# EAGLE library part IC_BUFF_74LVC244A (library dp_devices)
Octal buffer/line driver SN74LVC244A <http://www.ti.com/lit/ds/scas414x/scas414x.pdf>
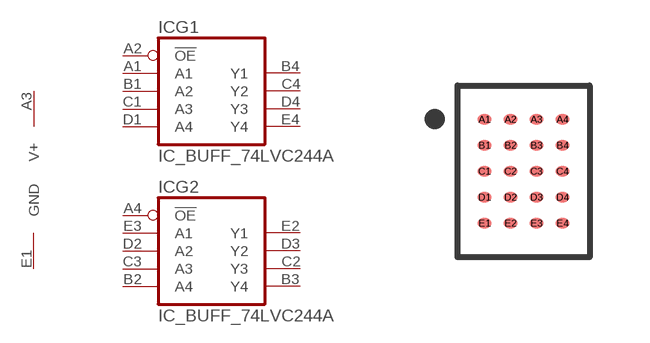
[diagram p143: symbol with the pads of BGA-20; footprint BGA-20]

Designator prefix IC; gates G1=74244 G2=74244 S1=SUPPLY

## IC_BUFF_74LVC244A  [BGA-20]
A1  G1:A1  in
A2  G1:!OE  in
A3  S1:V+  sup
A4  G2:!OE  in
B1  G1:A2  in
B2  G2:A4  in
B3  G2:Y4  out
B4  G1:Y1  out
C1  G1:A3  in
C2  G2:Y3  out
C3  G2:A3  in
C4  G1:Y2  out
D1  G1:A4  in
D2  G2:A2  in
D3  G2:Y2  out
D4  G1:Y3  out
E1  S1:GND  sup
E2  G2:Y1  out
E3  G2:A1  in
E4  G1:Y4  out

## Footprint BGA-20 (pad centres in mm)
BGA-20 0.65mm pitch
smd 0.343 x 0.254: A1 -0.975,1.3; A2 -0.325,1.3; A3 0.325,1.3; A4 0.975,1.3; B1 -0.975,0.65; B2 -0.325,0.65; B3 0.325,0.65; B4 0.975,0.65; C1 -0.975,0; C2 -0.325,0; C3 0.325,0; C4 0.975,0; D1 -0.975,-0.65; D2 -0.325,-0.65; D3 0.325,-0.65; D4 0.975,-0.65; E1 -0.975,-1.3; E2 -0.325,-1.3; E3 0.325,-1.3; E4 0.975,-1.3